# Altium schematic symbol library UniversalConverter_Symbols.SchLib: 20 symbols
Pins are listed as number, name and electrical type; pins without a type are passive.

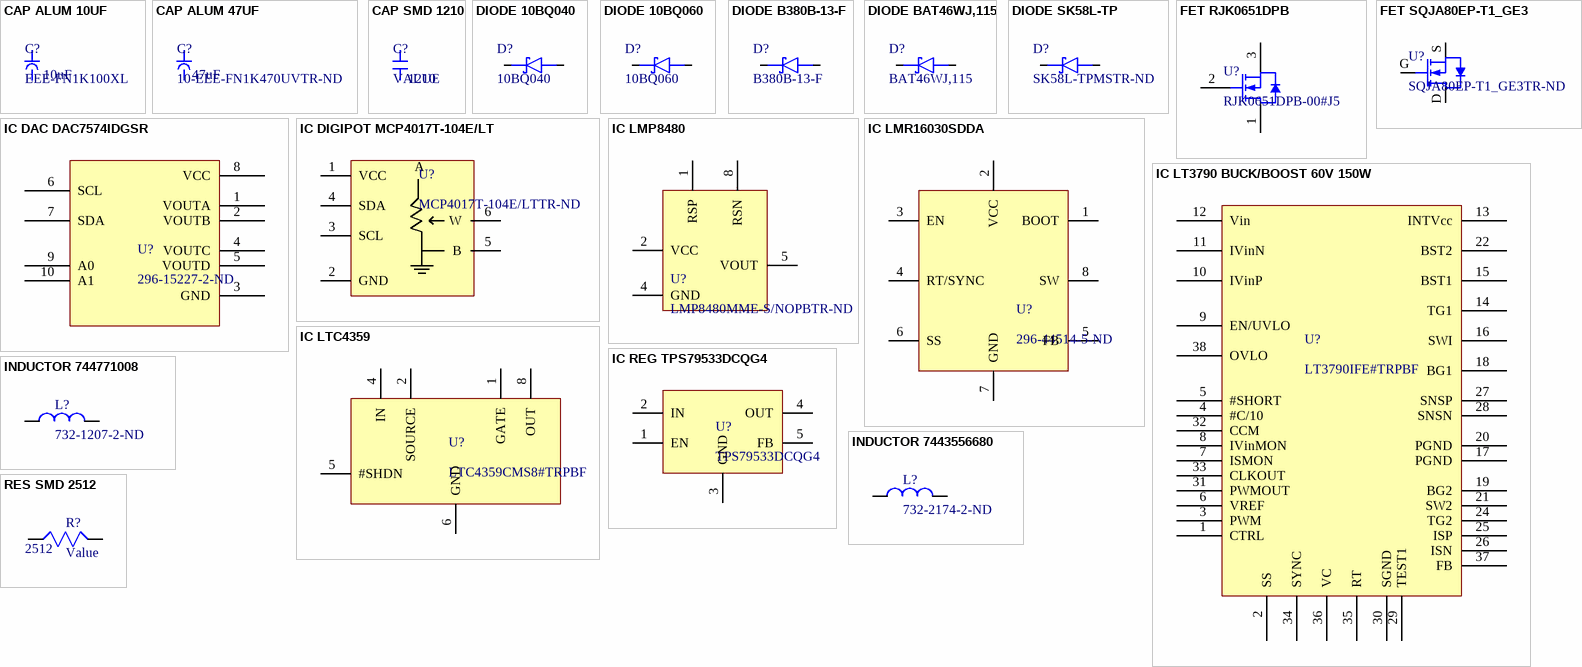
[diagram p0: symbols CAP ALUM 10UF to RES SMD 2512]

## CAP ALUM 10UF
designator C?, comment EEE-FN1K100XL  value 10uF
CAP ALUM 10UF 20% 80V SMD
footprint panasonic d8
pins: 1, 2

## CAP ALUM 47UF
designator C?, comment 10-EEE-FN1K470UVTR-ND
CAP ALUM 47UF 20% 80V SMD
footprint EEE-FN1K470UV
pins: 1, 2
text: 47uF

## CAP SMD 1210
designator C?, comment VALUE  Size: 1210
CAP SMD 1210
footprint 1210 cap
pins: 1, 2

## DIODE 10BQ040
designator D?, comment 10BQ040
DIODE SCHOTTKY 40V 1A SMB / Diode Schottky 40 V 1A Surface Mount DO-214AA (SMB) / https://assets.nexperia.com/documents/package-information/SOT669.pdf
footprint DO-214AA/SMB
pins: 1, 2

## DIODE 10BQ060
designator D?, comment 10BQ060
DIODE SCHOTTKY 60V 1A SMB / Diode Schottky 60 V 1A Surface Mount DO-214AA (SMB) / https://assets.nexperia.com/documents/package-information/SOT669.pdf
footprint DO-214AA/SMB
pins: 1, 2

## DIODE B380B-13-F
designator D?, comment B380B-13-F
DIODE SCHOTTKY 80V 3A SMB
footprint DO-214AA/SMB
pins: 1, 2

## DIODE BAT46WJ,115
designator D?, comment BAT46WJ,115
DIODE SCHOTTKY 100V 250MA SOD323 / Diode Schottky 100 V 250mA (DC) Surface Mount SOD-323F; Mfr_Name: Nexperia; Type: DEV; Copyright: Copyright (C) 2021 Ultra Librarian. All rights reserved.; Manufacturer_Part_Number: BAT46WJ,115; Digi-Key_Part_Number_1: 1727-4817-2-ND; Digi-Key_Part_Number_2: 1727-4817-1-ND; Digi-Key_Part_Number_3: 1727-4817-6-ND; RefDes: RefDes
footprint SOD323F
pins: 1, 2

## DIODE SK58L-TP
designator D?, comment SK58L-TPMSTR-ND
DIODE SCHOTTKY 80V 5A DO214AB/SMC / Diode Schottky 80 V 5A Surface Mount SMC (DO-214AB)
footprint SMC(DO-214AB)
pins: 1, 2

## FET RJK0651DPB
designator U?, comment RJK0651DPB-00#J5
MOSFET N-CH 60V 25A LFPAK / N-Channel 25A (Ta) 45W (Tc) Surface Mount LFPAK
footprint SOT669/LFPAK56
pins: 1 DRAIN, 2 GATE, 3 SOURCE

## FET SQJA80EP-T1_GE3
designator U?, comment SQJA80EP-T1_GE3TR-ND
MOSFET N-CH 80V 60A PPAK SO-8
footprint PowerPAK® SO-8L SINGLE
pins: D DRAIN, G GATE, S SOURCE

## IC DAC DAC7574IDGSR
designator U?, comment 296-15227-2-ND
IC DAC 12BIT V-OUT 10VSSOP
footprint 10-VSSOP
pins: 1 VOUTA, 2 VOUTB, 3 GND, 4 VOUTC, 5 VOUTD, 6 SCL, 7 SDA, 8 VCC, 9 A0, 10 A1

## IC DIGIPOT MCP4017T-104E/LT
designator U?, comment MCP4017T-104E/LTTR-ND
IC DGT POT 100KOHM 128TAP SC70-6
footprint SC70
pins: 1 VCC, 2 GND, 3 SCL, 4 SDA, 5 B, 6 W
text: A

## IC LMP8480
designator U?, comment LMP8480MME-S/NOPBTR-ND
IC CURR SENSE 1 CIRCUIT 8VSSOP
footprint DGK(S-PDSO-G8)
pins: 1 RSP, 2 VCC, 4 GND, 5 VOUT, 8 RSN

## IC LMR16030SDDA
designator U?, comment 296-44514-5-ND
IC REG BUCK ADJUSTABLE 3A 8SOPWR
footprint DDA R-PDSO-G8
pins: 1 BOOT, 2 VCC, 3 EN, 4 RT/SYNC, 5 FB, 6 SS, 7 GND, 8 SW

## IC LT3790 BUCK/BOOST 60V 150W
designator U?, comment LT3790IFE#TRPBF
IC REG CTRLR BUCK-BOOST 38TSSOP / Buck-Boost Regulator Positive Output Step-Up/Step-Down - DC-DC Controller IC 38-TSSOP-EP
footprint TSSOP-38-GNDPAD
pins: 1 CTRL, 2 SS, 3 PWM, 4 #C/10, 5 #SHORT, 6 VREF, 7 ISMON, 8 IVinMON, 9 EN/UVLO, 10 IVinP, 11 IVinN, 12 Vin, 13 INTVcc, 14 TG1, 15 BST1, 16 SWI, 17 PGND, 18 BG1, 19 BG2, 20 PGND, 21 SW2, 22 BST2, 24 TG2, 25 ISP, 26 ISN, 27 SNSP, 28 SNSN, 29 TEST1, 30 SGND, 31 PWMOUT, 32 CCM, 33 CLKOUT, 34 SYNC, 35 RT, 36 VC, 37 FB, 38 OVLO

## IC LTC4359
designator U?, comment LTC4359CMS8#TRPBF
OR Controller N+1 ORing Controller N-Channel N:1 8-MSOP
footprint 8-MSOP
pins: 1 GATE, 2 SOURCE, 4 IN, 5 #SHDN, 6 GND, 8 OUT

## IC REG TPS79533DCQG4
designator U?, comment TPS79533DCQG4
IC REG LIN 3.3V 500MA SOT223-6
footprint 6 pin sot223
pins: 1 EN, 2 IN, 3 GND, 4 OUT, 5 FB

## INDUCTOR 744771008
designator L?, comment 732-1207-2-ND
FIXED IND 8.2UH 6.25A 20MOHM SMD
footprint 8R2
pins: 1, 2

## INDUCTOR 7443556680
designator L?, comment 732-2174-2-ND
FIXED IND 6.8UH 18.5A 4.1MOHM SM
footprint Inductor
pins: 1, 2

## RES SMD 2512
designator R?, comment Value  Size: 2512
RES SMD 2512 2W
footprint 2512
pins: 1, 2